# Altium footprint library ONSEMI_DO-35.PcbLib: 1 footprints
Each footprint in its own frame and in the unit in brackets; x right, y up, seen from the top. Pads: shape width x height; smd on the part's side, far side on the other; paste and mask are expansions set on the pad; w line width, h text height; cw(c..) or ccw(c..) is an arc to the next point about the centre after c.
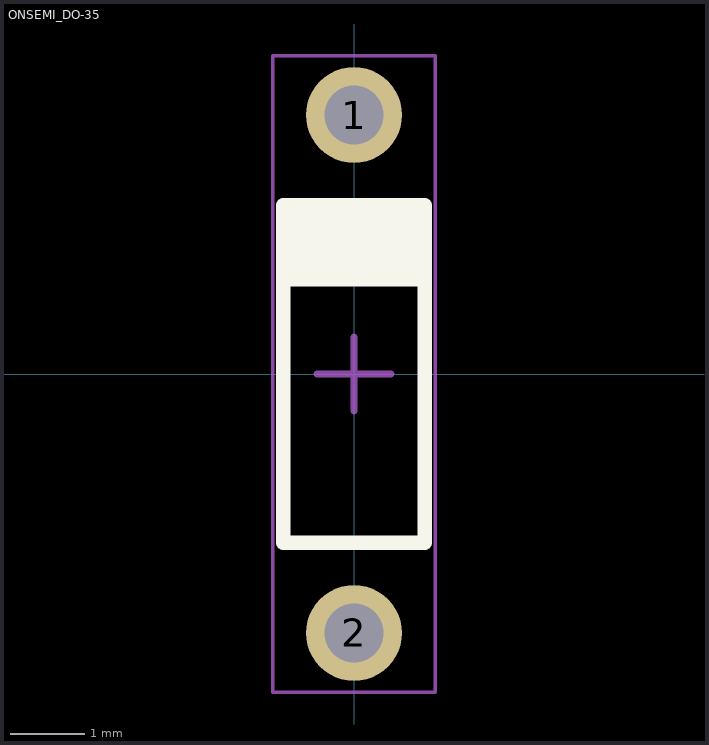
[diagram p0: the footprint, top view; thin cyan lines are the x and y axes]

## ONSEMI_DO-35 [mm] "ONSEMI_DO-35"
height 1.91
pads (2):
  round 1.3 hole 0.8 mask+0.05: 1(0,3.5) 2(0,-3.5)
Top Overlay:
  rectangle: -0.955,1.28 0.955,2.28
  lines w0.2: -0.955,1.28 0.955,1.28 ; -0.955,-2.28 0.955,-2.28 0.955,2.28 -0.955,2.28 -0.955,-2.28
Mechanical 13:
  rectangle: -0.955,1.28 0.955,2.28
  lines w0.1: -0.955,1.28 0.955,1.28 ; -0.955,-2.28 -0.955,2.28 0.955,2.28 0.955,-2.28 -0.955,-2.28
Mechanical 15:
  lines w0.05: -1.1,-4.3 -1.1,4.3 1.1,4.3 1.1,-4.3 -1.1,-4.3
  lines w0.1: -0.5,0 0.5,0 ; 0,-0.5 0,0.5
3D body: height 1.95, standoff 0.05, extent -0.955,-2.28 0.955,2.28